# Altium footprint library PASSIVE_SMD.PCBLIB: 249 footprints (part 15 of 16)
Each footprint in its own frame and in the unit in brackets; x right, y up, seen from the top. Pads: shape width x height; smd on the part's side, far side on the other; paste and mask are expansions set on the pad; w line width, h text height; cw(c..) or ccw(c..) is an arc to the next point about the centre after c.
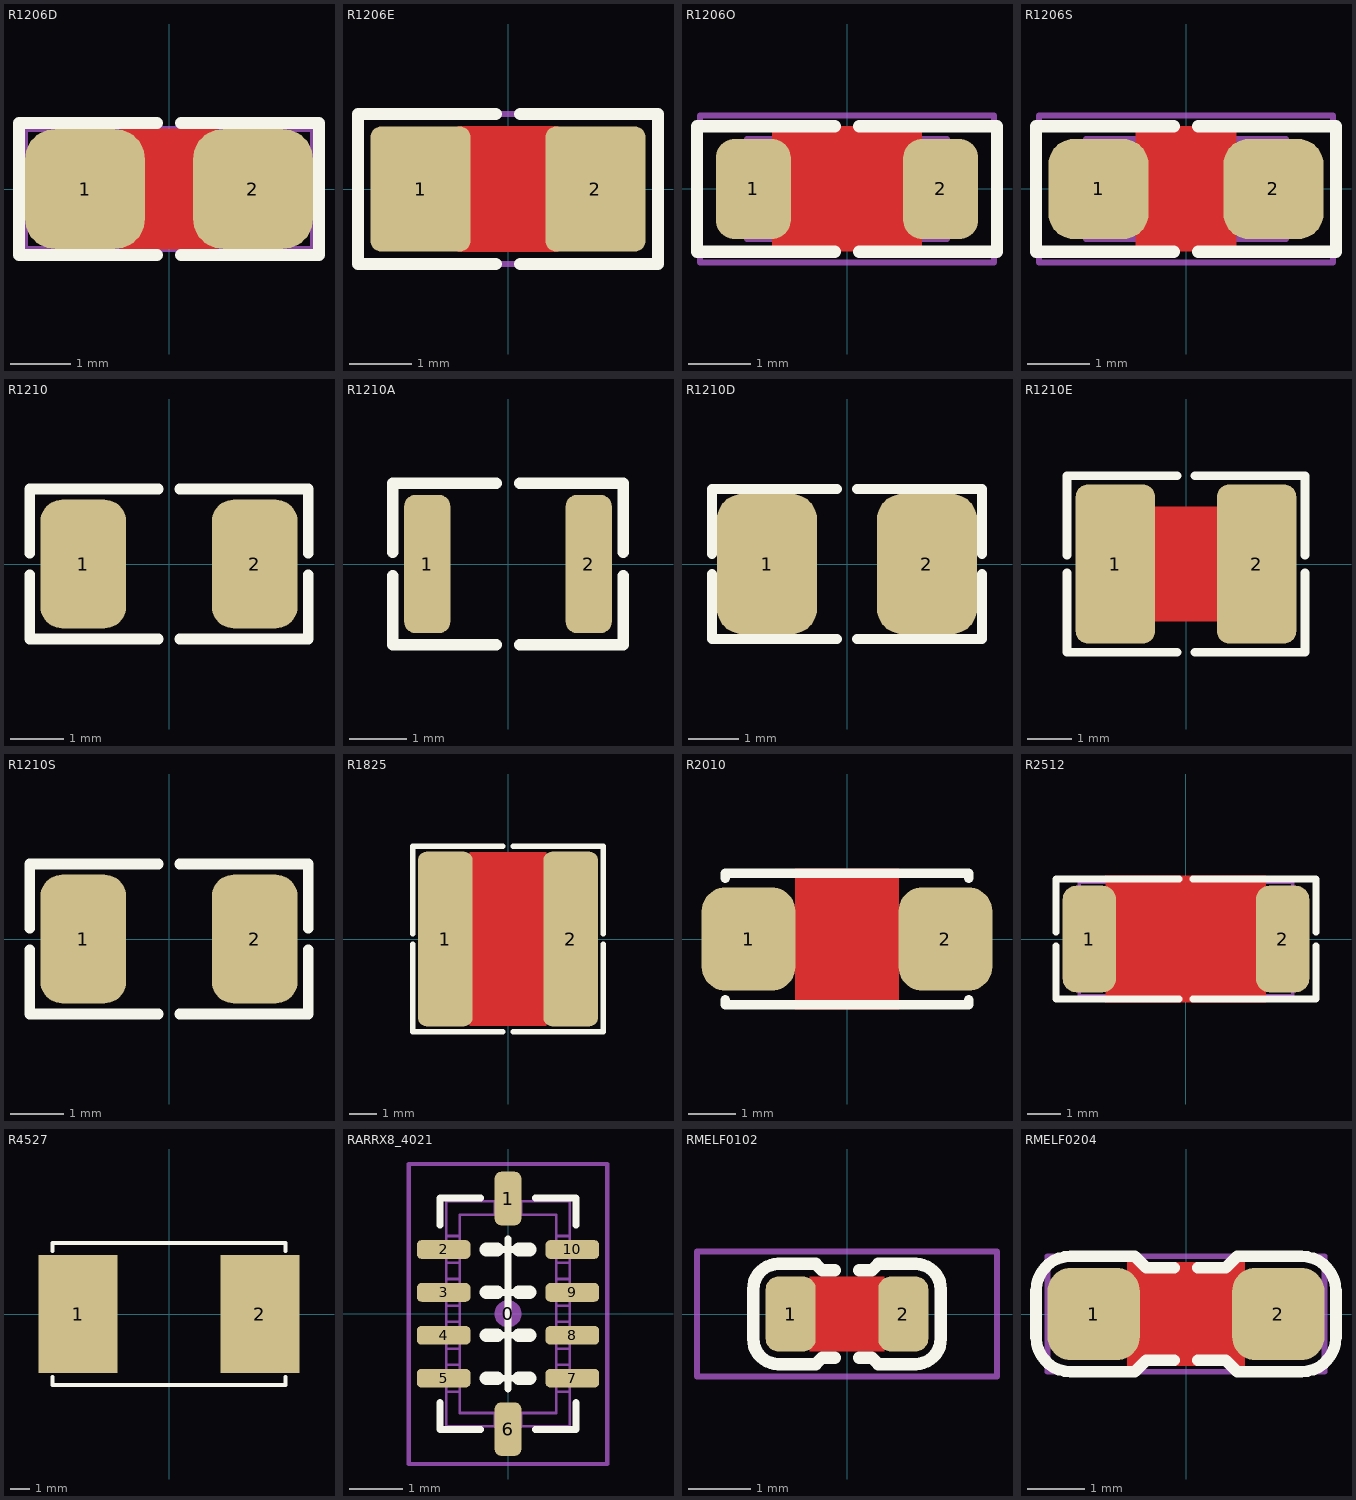
[diagram p14: the footprints below, top view; thin cyan lines are the x and y axes]

## R1206D [mm] "CHIP RESISTOR 1/4 WATT, Body 3.2x1.6mm,1206, 3216, SMD (SolderMask Defined)"
height 2
pads (2):
  rrect50% 2x2 smd paste-1 mask-0.2: 1(-1.4,0) 2(1.4,0)
Top Layer:
  pour cut-out: -0.8,1 -0.8,-1 0.8,-1 0.8,1
Top Overlay:
  lines w0.2: -0.2,-1.1 -2.5,-1.1 -2.5,1.1 -0.2,1.1 ; 0.2,-1.1 2.5,-1.1 2.5,1.1 0.2,1.1
Top Paste:
  region: 0.7,-0.1 0.7,0.1 0.7,0.219 0.791,0.44 0.96,0.609 1.181,0.7 1.3,0.7 1.8,0.7 1.86,0.7 1.97,0.654 2.054,0.57 2.1,0.46 2.1,0.4 2.1,-0.4 2.1,-0.46 2.054,-0.57 1.97,-0.654 1.86,-0.7 1.8,-0.7 1.3,-0.7 1.181,-0.7 0.96,-0.609 0.791,-0.44 0.7,-0.219
  region: -0.7,-0.1 -0.7,0.1 -0.7,0.219 -0.791,0.44 -0.96,0.609 -1.181,0.7 -1.3,0.7 -1.8,0.7 -1.86,0.7 -1.97,0.654 -2.054,0.57 -2.1,0.46 -2.1,0.4 -2.1,-0.4 -2.1,-0.46 -2.054,-0.57 -1.97,-0.654 -1.86,-0.7 -1.8,-0.7 -1.3,-0.7 -1.181,-0.7 -0.96,-0.609 -0.791,-0.44 -0.7,-0.219
Mechanical 13:
  lines w0.1: -1.6,-0.8 1.6,-0.8 1.6,0.8 -1.6,0.8 -1.6,-0.8
Mechanical 15:
  lines w0.1: -0.5,0 0.5,0 ; 0,-0.5 0,0.5 ; -2.4,-1 -2.4,1 2.4,1 2.4,-1 -2.4,-1
3D body "User Library-RES_3216-1206.step": height 0.85, standoff 0, extent -1.675,-0.865 1.675,0.865

## R1206E [mm] "CHIP RESISTOR 1/4 WATT, EXPANDED PAD"
height 2
pads (2):
  rrect20% 1.6x2 smd paste-0.8 mask+0.075: 1(-1.4,0) 2(1.4,0)
Top Layer:
  pour cut-out: -0.8,1 -0.8,-1 0.8,-1 0.8,1
Top Overlay:
  lines w0.2: -0.2,-1.2 -2.4,-1.2 -2.4,1.2 -0.2,1.2 ; 0.2,-1.2 2.4,-1.2 2.4,1.2 0.2,1.2
Top Paste:
  region: -0.7,-0.2 -0.7,0.25 -0.7,0.359 -0.784,0.562 -0.938,0.716 -1.141,0.8 -1.25,0.8 -1.95,0.8 -1.99,0.8 -2.063,0.77 -2.12,0.713 -2.15,0.64 -2.15,0.6 -2.15,-0.55 -2.15,-0.59 -2.12,-0.663 -2.063,-0.72 -1.99,-0.75 -1.95,-0.75 -1.25,-0.75 -1.141,-0.75 -0.938,-0.666 -0.784,-0.512 -0.7,-0.309
  region: 0.7,-0.2 0.7,0.25 0.7,0.359 0.784,0.562 0.938,0.716 1.141,0.8 1.25,0.8 1.95,0.8 1.99,0.8 2.063,0.77 2.12,0.713 2.15,0.64 2.15,0.6 2.15,-0.55 2.15,-0.59 2.12,-0.663 2.063,-0.72 1.99,-0.75 1.95,-0.75 1.25,-0.75 1.141,-0.75 0.938,-0.666 0.784,-0.512 0.7,-0.309
Mechanical 13:
  lines w0.1: -1.6,-0.8 -1.6,0.8 1.6,0.8 1.6,-0.8 -1.6,-0.8
Mechanical 15:
  lines w0.1: -0.5,0 0.5,0 ; 0,-0.5 0,0.5 ; -2.4,-1.2 2.4,-1.2 2.4,1.2 -2.4,1.2 -2.4,-1.2
3D body "User Library-RES_3216-1206.step": height 0.85, standoff 0, extent -1.675,-0.865 1.675,0.865

## R1206O [mm] "CHIP RESISTOR 1/4 WATT, Body 3.2x1.6mm,1206, 3216"
height 2
pads (2):
  rrect50% 1.2x1.6 smd mask+0.075: 1(-1.5,0) 2(1.5,0)
Top Layer:
  pour cut-out: -1.2,1 -1.2,-1 1.2,-1 1.2,1
Top Overlay:
  lines w0.2: -2.4,-1 -0.2,-1 ; -2.4,-1 -2.4,1 -0.2,1 ; 0.2,-1 2.4,-1 ; 0.2,1 2.4,1 2.4,-1
Mechanical 13:
  lines w0.1: -1.6,-0.8 1.6,-0.8 1.6,0.8 -1.6,0.8 -1.6,-0.8
Mechanical 15:
  lines w0.1: -0.5,0 0.5,0 ; 0,-0.5 0,0.5 ; -2.35,-1.175 2.35,-1.175 2.35,1.175 -2.35,1.175 -2.35,-1.175
3D body "User Library-RES_3216-1206.step": height 0.85, standoff 0, extent -1.675,-0.865 1.675,0.865

## R1206S [mm] "CHIP RESISTOR 1/4 WATT, Body 3.2x1.6mm,1206, 3216, soldered"
height 2
pads (2):
  rrect50% 1.6x1.6 smd paste-0.1 mask+0.075: 1(-1.4,0) 2(1.4,0)
Top Layer:
  pour cut-out: -0.8,1 -0.8,-1 0.8,-1 0.8,1
Top Overlay:
  lines w0.2: -2.4,-1 -0.2,-1 ; -2.4,-1 -2.4,1 -0.2,1 ; 0.2,-1 2.4,-1 ; 0.2,1 2.4,1 2.4,-1
Mechanical 13:
  lines w0.1: -1.6,-0.8 1.6,-0.8 1.6,0.8 -1.6,0.8 -1.6,-0.8
Mechanical 15:
  lines w0.1: -0.5,0 0.5,0 ; 0,-0.5 0,0.5 ; -2.35,-1.175 2.35,-1.175 2.35,1.175 -2.35,1.175 -2.35,-1.175
3D body "r1206_Res1.step": height 1.25, standoff 0, extent -2.27,-0.8 2.27,0.8

## R1210 [mm] "CHIP RESISTOR 1/2 WATT, Body 3.2x2.5mm,1210, 3225"
height 0.7
pads (2):
  rrect50% 1.6x2.4 smd paste-0.2 mask+0.075: 1(-1.6,0) 2(1.6,0)
Top Overlay:
  lines w0.2: -2.6,-0.2 -2.6,-1.4 -0.2,-1.4 ; -2.6,0.2 -2.6,1.4 -0.2,1.4 ; 0.2,-1.4 2.6,-1.4 2.6,-0.2 ; 0.2,1.4 2.6,1.4 2.6,0.2
3D body "RES 1210 (3225 metric).STEP": height 0.69, standoff -0.01, extent -1.7,-1.35 1.7,1.35

## R1210A [mm] "CHIP RESISTOR 1/2 WATT, Body 3.2x2.5mm,1210, for PCBA"
height 0.7
pads (2):
  rrect50% 0.8x2.4 smd mask+0.075: 1(-1.4,0) 2(1.4,0)
Top Overlay:
  lines w0.2: -2,-0.2 -2,-1.4 -0.2,-1.4 ; -2,0.2 -2,1.4 -0.2,1.4 ; 0.2,-1.4 2,-1.4 2,-0.2 ; 0.2,1.4 2,1.4 2,0.2
3D body "RES 1210 (3225 metric).STEP": height 0.69, standoff -0.01, extent -1.7,-1.35 1.7,1.35

## R1210D [mm] "CHIP RESISTOR 1/2 WATT, Body 3.2x2.5mm,1210, 3225, SMD (SolderMask Defined)"
height 0.7
pads (2):
  rrect50% 2x2.8 smd paste-0.3 mask-0.2: 1(-1.6,0) 2(1.6,0)
Top Overlay:
  lines w0.2: -2.7,-0.2 -2.7,-1.5 -0.2,-1.5 ; -2.7,0.2 -2.7,1.5 -0.2,1.5 ; 0.2,-1.5 2.7,-1.5 2.7,-0.2 ; 0.2,1.5 2.7,1.5 2.7,0.2
3D body "RES 1210 (3225 metric).STEP": height 0.69, standoff -0.01, extent -1.7,-1.35 1.7,1.35

## R1210E [mm] "CHIP RESISTOR 1/2 WATT, EXPANDED PAD"
height 0.7
pads (2):
  rrect30% 1.8x3.6 smd paste-0.1 mask+0.075: 1(-1.6,0) 2(1.6,0)
Top Layer:
  pour cut-out: -0.8,1.3 -0.8,-1.3 0.8,-1.3 0.8,1.3
Top Overlay:
  lines w0.2: -2.7,-0.2 -2.7,-2 -0.2,-2 ; -2.7,0.2 -2.7,2 -0.2,2 ; 0.2,-2 2.7,-2 2.7,-0.2 ; 0.2,2 2.7,2 2.7,0.2
3D body "RES 1210 (3225 metric).STEP": height 0.69, standoff -0.01, extent -1.7,-1.35 1.7,1.35

## R1210S [mm] "CHIP RESISTOR 1/2 WATT, Body 3.2x2.5mm,1210, 3225, soldered"
height 0.7
pads (2):
  rrect50% 1.6x2.4 smd paste-0.1 mask+0.075: 1(-1.6,0) 2(1.6,0)
Top Overlay:
  lines w0.2: -2.6,-0.2 -2.6,-1.4 -0.2,-1.4 ; -2.6,0.2 -2.6,1.4 -0.2,1.4 ; 0.2,-1.4 2.6,-1.4 2.6,-0.2 ; 0.2,1.4 2.6,1.4 2.6,0.2
3D body "r1210_Res1.step": height 1.61, standoff 0, extent -2.47,-1.25 2.47,1.25

## R1825 [mm] "CHIP Resistor, 5.1x3.0mm, 4.6X6.4mm, 1825, 4565"
pads (2):
  rrect30% 2x6.4 smd: 1(-2.3,0) 2(2.3,0)
Top Layer:
  pour cut-out: 1.397,3.175 1.397,-3.175 -1.397,-3.175 -1.397,3.175
Top Overlay:
  lines w0.2: -3.5,-0.2 -3.5,-3.4 -0.2,-3.4 ; -3.5,0.2 -3.5,3.4 -0.2,3.4 ; 0.2,-3.4 3.5,-3.4 3.5,-0.2 ; 0.2,3.4 3.5,3.4 3.5,0.2
3D body "User Library-1825(4564M) Res.step": height 2.54, standoff 0, extent -2.81,-3.2 2.81,3.201

## R2010 [mm] "CHIP RESISTOR 3/4 WATT, 5.1x3mm, 2010, 5025"
pads (2):
  rrect50% 2x2.2 smd: 1(-2.1,0) 2(2.1,0)
Top Layer:
  pour cut-out: -1.1,1.5 1.1,1.5 1.1,-1.5 -1.1,-1.5
Top Overlay:
  lines w0.2: -2.6,-1.3 -2.6,-1.4 2.6,-1.4 2.6,-1.3 ; -2.6,1.3 -2.6,1.4 2.6,1.4 2.6,1.3
3D body "User Library-R_2010.step": height 0.6, standoff 0, extent -2.5,-1.25 2.5,1.25

## R2512 [mm] "CHIP RESISTOR 1 WATT, 6.4X3.2mm, 2512, 6432"
height 1
pads (2):
  rrect50% 1.6x3.2 smd: 1(-2.9,0) 2(2.9,0)
Top Layer:
  pour cut-out: -2.4,1.9 2.4,1.9 2.4,-1.9 -2.4,-1.9
Top Overlay:
  lines w0.2: -3.9,-0.2 -3.9,-1.8 -0.2,-1.8 ; -3.9,0.2 -3.9,1.8 -0.2,1.8 ; 0.2,-1.8 3.9,-1.8 3.9,-0.2 ; 0.2,1.8 3.9,1.8 3.9,0.2
Mechanical 13:
  lines w0.1: -3.2,-1.7 3.2,-1.7 3.2,1.7 -3.2,1.7 -3.2,-1.7
3D body "User Library-2512 SMD Resistor.step": height 1.6, standoff 0, extent -3.175,-1.5 3.175,1.5

## R4527 [mm] "CURRENT SENSE RESISTOR, 11.5x7.0X2.4mm, 4527, 11570"
height 2.4
pads (2):
  rect 4x6 smd: 1(-4.6,0) 2(4.6,0)
Top Overlay:
  lines w0.2: -5.9,-3.2 -5.9,-3.6 5.9,-3.6 5.9,-3.2 ; -5.9,3.2 -5.9,3.6 5.9,3.6 5.9,3.2
3D body "WSR5R2500FEA.stp": height 2.54, standoff 0, extent -5.78,-3.49 5.78,3.49

## RARRX8_4021 [mm] "Resistor ARRAY X8, SMD, 4.0x2.1mm, EXBE10"
height 0.65
pads (11):
  round 0.508 on Mech15: 0(0,0)
  rrect50% 0.5x1 smd: 1(0,2.15) 6(0,-2.15)
  rrect50% 1x0.35 smd: 2(-1.2,1.2) 3(-1.2,0.4) 4(-1.2,-0.4) 5(-1.2,-1.2) 7(1.2,-1.2) 8(1.2,-0.4) 9(1.2,0.4) 10(1.2,1.2)
Top Overlay:
  lines w0.127: -1.27,-1.651 -1.27,-2.159 -0.508,-2.159 ; -1.27,1.651 -1.27,2.159 -0.508,2.159 ; -0.2,-1.2 0.2,-1.2 ; -0.2,-0.4 0.2,-0.4 ; -0.2,0.4 0.2,0.4 ; -0.2,1.2 0.2,1.2 ; 0,-1.4 0,1.4 ; 0.508,-2.159 1.27,-2.159 1.27,-1.651 ; 0.508,2.159 1.27,2.159 1.27,1.651
  lines w0.254: -0.4,-1.2 -0.2,-1.2 ; -0.4,-0.4 -0.2,-0.4 ; -0.4,0.4 -0.2,0.4 ; -0.4,1.2 -0.2,1.2 ; 0.2,-1.2 0.4,-1.2 ; 0.2,-0.4 0.4,-0.4 ; 0.2,0.4 0.4,0.4 ; 0.2,1.2 0.4,1.2
Mechanical 13:
  lines w0.05: -1.149,-0.95 -1.15,-0.65 ; -1.149,-0.15 -1.15,0.15 ; -1.149,0.65 -1.15,0.95 ; -0.9,-1.45 -1.15,-1.45 ; -0.9,-0.95 -1.15,-0.95 -1.15,-1.05 cw(c-1.15,-1.2) -1.15,-1.35 -1.15,-1.45 ; -0.9,-0.65 -1.15,-0.65 ; -0.9,-0.15 -1.15,-0.15 -1.15,-0.25 cw(c-1.15,-0.4) -1.15,-0.55 -1.15,-0.65 ; -0.9,0.15 -1.15,0.15 ; -0.9,0.65 -1.15,0.65 -1.15,0.55 cw(c-1.15,0.4) -1.15,0.25 -1.15,0.15 ; -0.9,0.95 -1.15,0.95 ; -0.9,1.45 -1.15,1.45 ; -0.25,-1.85 -0.25,-2.1 ; -0.25,1.85 -0.25,2.1 ; 0.25,-1.85 0.25,-2.1 ; 0.25,1.85 0.25,2.1 ; 0.9,-1.45 1.15,-1.45 ; 0.9,-0.95 1.15,-0.95 1.15,-1.05 ccw(c1.15,-1.2) 1.15,-1.35 1.15,-1.45 ; 0.9,-0.65 1.15,-0.65 ; 0.9,-0.15 1.15,-0.15 1.15,-0.25 ccw(c1.15,-0.4) 1.15,-0.55 1.15,-0.65 ; 0.9,0.15 1.15,0.15 ; 0.9,0.65 1.15,0.65 1.15,0.55 ccw(c1.15,0.4) 1.15,0.25 1.15,0.15 ; 0.9,0.95 1.15,0.95 ; 0.9,1.45 1.15,1.45 ; 1.149,-0.95 1.15,-0.65 ; 1.149,-0.15 1.15,0.15 ; 1.149,0.65 1.15,0.95 ; -1.15,-1.45 -1.149,-2.099 -0.25,-2.1 ; -1.15,0.95 -1.15,1.05 ccw(c-1.15,1.2) -1.15,1.35 -1.15,1.45 ; -1.15,1.45 -1.149,2.099 -0.25,2.1 ; -0.25,-2.1 -0.15,-2.1 cw(c0,-2.1) 0.15,-2.1 0.25,-2.1 ; -0.25,2.1 -0.15,2.1 ccw(c0,2.1) 0.15,2.1 0.25,2.1 ; 0.25,-2.1 1.149,-2.099 1.15,-1.45 ; 0.25,2.1 1.149,2.099 1.15,1.45 ; 1.15,0.95 1.15,1.05 cw(c1.15,1.2) 1.15,1.35 1.15,1.45 ; -0.9,-1.85 0.9,-1.85 0.9,1.85 -0.9,1.85 -0.9,-1.85
Mechanical 15:
  lines w0.076: -1.85,-2.8 -1.85,2.794 1.85,2.794 1.85,-2.8 -1.85,-2.8
3D body "RES_ARRAY_EXBE.STEP": height 0.65, standoff 0, extent -1.15,-2.1 1.15,2.1

## RMELF0102 [mm] "RESISTOR, MICRO MELF 0102, as 0805, 0.2WATT, L2.2xD1.2mm"
height 2
pads (2):
  rrect50% 0.8x1.2 smd paste-0.1 mask+0.05: 1(-0.9,0) 2(0.9,0)
Top Layer:
  pour cut-out: -0.6,0.6 0.6,0.6 0.6,-0.6 -0.6,-0.6
Top Overlay:
  lines w0.2: -0.2,-0.7 -0.4,-0.7 -0.5,-0.8 -1.1,-0.8 cw(c-1.1,-0.4) -1.5,-0.4 -1.5,0.4 cw(c-1.1,0.4) -1.1,0.8 -0.5,0.8 -0.4,0.7 -0.2,0.7 ; 0.2,-0.7 0.4,-0.7 0.5,-0.8 1.1,-0.8 ccw(c1.1,-0.4) 1.5,-0.4 1.5,0.4 ccw(c1.1,0.4) 1.1,0.8 0.5,0.8 0.4,0.7 0.2,0.7
Mechanical 15:
  lines w0.1: -0.5,0 0.5,0 ; 0,-0.5 0,0.5 ; -2.4,-1 -2.4,1 2.4,1 2.4,-1 -2.4,-1
3D body "microMelf_res_0204.stp": height 1.05, standoff -0.05, extent -1.1,-0.549 1.1,0.549

## RMELF0204 [mm] "RESISTOR, mini MELF 0204, as 1206, 0.4WATT, L3.6xD1.4mm"
height 2
pads (2):
  rrect50% 1.6x1.6 smd paste-0.1 mask+0.05: 1(-1.6,0) 2(1.6,0)
Top Layer:
  pour cut-out: -1.016,0.9 1.016,0.9 1.016,-0.9 -1.016,-0.9
Top Overlay:
  lines w0.2: -0.2,-0.8 -0.689,-0.8 -0.889,-1 -2,-1 cw(c-2,-0.4) -2.6,-0.4 -2.6,0.4 cw(c-2,0.4) -2,1 -0.889,1 -0.689,0.8 -0.2,0.8 ; 0.2,-0.8 0.689,-0.8 0.889,-1 2,-1 ccw(c2,-0.4) 2.6,-0.4 2.6,0.4 ccw(c2,0.4) 2,1 0.889,1 0.689,0.8 0.2,0.8
Mechanical 15:
  lines w0.1: -0.5,0 0.5,0 ; 0,-0.5 0,0.5 ; -2.4,-1 -2.4,1 2.4,1 2.4,-1 -2.4,-1
3D body "Mini-MELF 0204.step": height 1.4, standoff 0, extent -1.8,-0.7 1.8,0.7